# Altium footprint library FT-M6678DSK_28nm_0920.PcbLib: 78 footprints (part 2 of 6)
Each footprint in its own frame and in the unit in brackets; x right, y up, seen from the top. Pads: shape width x height; smd on the part's side, far side on the other; paste and mask are expansions set on the pad; w line width, h text height; cw(c..) or ccw(c..) is an arc to the next point about the centre after c.
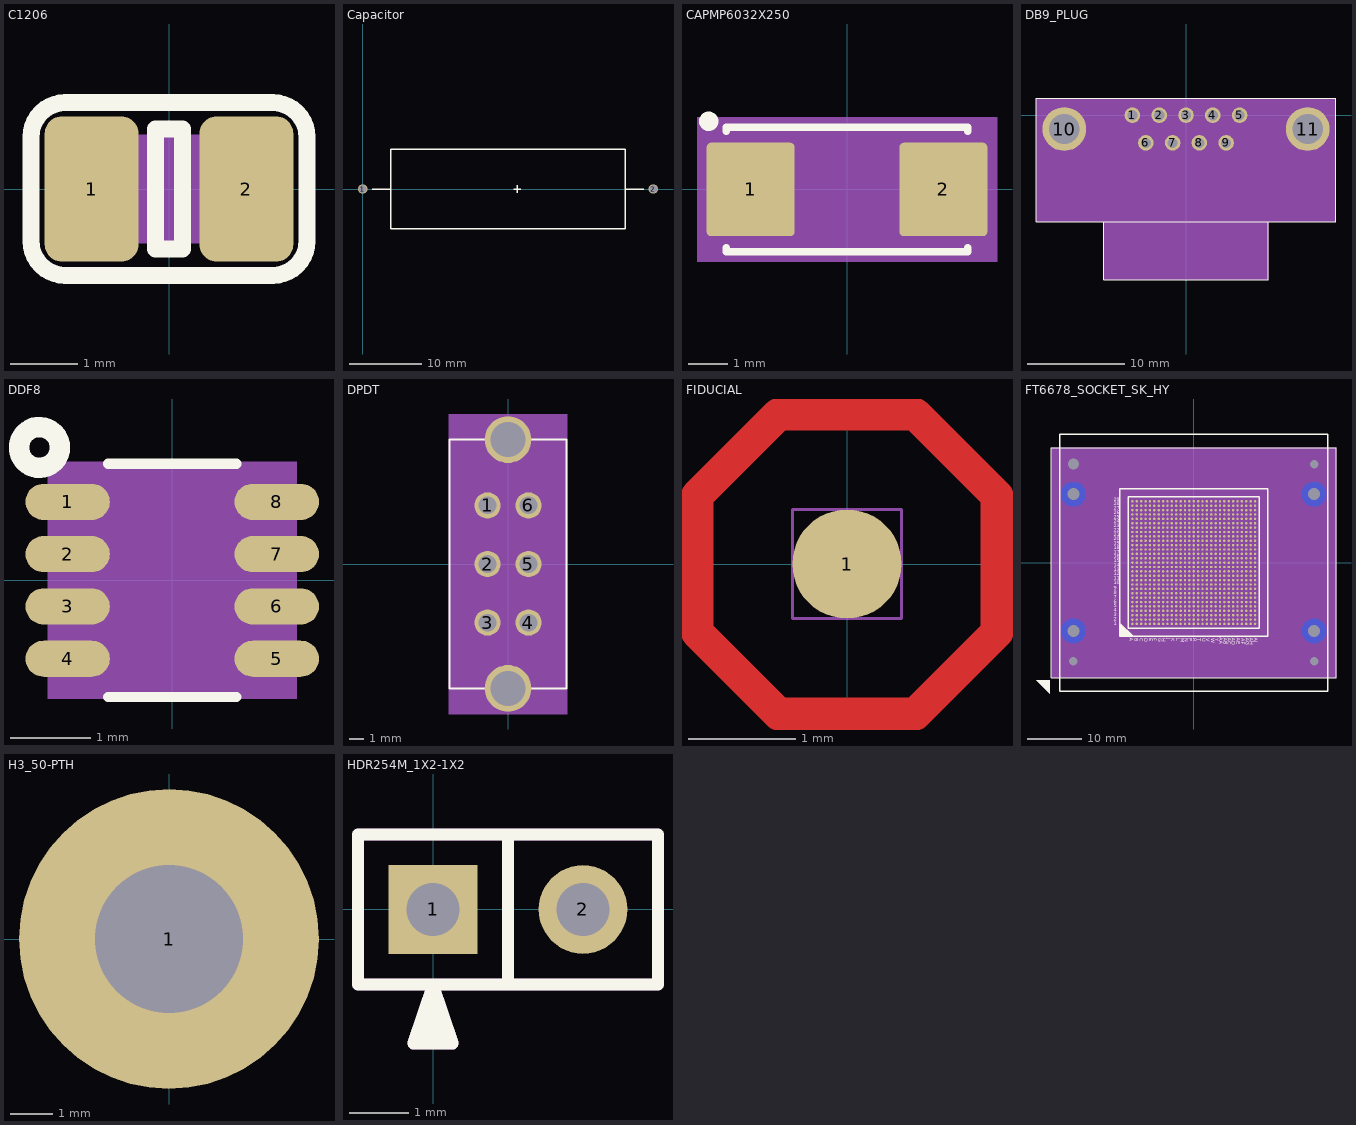
[diagram p1: the footprints below, top view; thin cyan lines are the x and y axes]

## C1206 [mil] "C1206"
pads (2):
  rrect36% 55x85 smd: 1(-45.28,0) 2(45.28,0)
Top Overlay:
  lines w10: -80.78,-30.5 ccw(c-60.78,-30.5) -60.78,-50.5 60.78,-50.5 ccw(c60.78,-30.5) 80.78,-30.5 80.78,30.5 ccw(c60.78,30.5) 60.78,50.5 -60.78,50.5 ccw(c-60.78,30.5) -80.78,30.5 -80.78,-30.5 ; -7.87,-35 -7.87,35 7.87,35 7.87,-35 -7.87,-35
Mechanical 11:
  text "1" at -45.28,-4.72 h11.81
  text "2" at 45.28,-4.72 h11.81
Mechanical 12:
  lines w1: -62.99,-31.5 -62.99,31.5 62.99,31.5 62.99,-31.5 -62.99,-31.5
Mechanical 15:
  region: -62.99,-31.5 62.98,-31.5 62.98,31.5 -62.99,31.5
3D body: height 150, standoff 0, extent -62.99,-31.5 62.98,31.5

## Capacitor [mm]
pads (2):
  round 1.3 hole 1.1: 1(0,0) 2(40,0)
Top Overlay:
  lines w0.2: 1.3,0 3.825,0 ; 20.762,0 21.778,0 ; 21.27,-0.508 21.27,0.508 ; 36.175,0 38.7,0 ; 3.825,0 3.825,5.5 36.175,5.5 36.175,-5.5 3.825,-5.5 3.825,0

## CAPMP6032X250 [mil] "CAPMP6032X250"
pads (2):
  rrect9% 88.58x94.5 smd: 1(-97.44,0) 2(97.44,0)
Top Overlay:
  circle w9.84: c-139.77,68.9 r4.93
  lines w7.87: -122.05,-59.06 -122.05,-62.99 122.04,-62.99 122.04,-59.06 ; -122.05,59.05 -122.05,62.99 122.04,62.99 122.04,59.05
Mechanical 11:
  text "1" at -97.45,-3.16 h11.81
  text "2" at 97.44,-3.16 h11.81
Mechanical 15:
  region: -151.58,-72.84 151.57,-72.84 151.57,72.83 -151.58,72.83
Mechanical 16:
  lines w7.87: -118.11,-62.99 -118.11,62.99 ; -114.18,-62.99 -114.18,62.99 ; -110.24,-62.99 -110.24,62.99 ; -106.3,-62.99 -106.3,62.99 ; -102.37,-62.99 -102.37,62.99 ; -122.05,-62.99 122.04,-62.99 122.04,62.99 -122.05,62.99 -122.05,-62.99
3D body: height 150, standoff 0, extent -151.58,-72.84 151.57,72.83

## DB9_PLUG [mm] "DB9_PLUG"
pads (11):
  round 1.6 hole 1.04: 1(-5.5,0) 2(-2.75,0) 3(0,0) 4(2.75,0) 5(5.5,0) 6(-4.125,-2.84) 7(-1.375,-2.84) 8(1.375,-2.84) 9(4.125,-2.84)
  round 4.5 hole 3.1: 10(-12.5,-1.42) 11(12.5,-1.42)
Top Overlay:
  lines w0.127: -8.46,-10.92 -8.46,-16.89 8.46,-16.89 8.46,-10.92 ; -15.405,-10.92 15.405,-10.92 15.405,1.73 -15.405,1.73 -15.405,-10.92
Mechanical 11:
  text "1" at -5.5,-0.12 h0.3
  text "10" at -12.5,-1.66 h0.3
  text "11" at 12.5,-1.66 h0.3
  text "4" at 2.75,-0.12 h0.3
  text "6" at -4.125,-2.96 h0.3
  text "7" at -1.375,-2.96 h0.3
  text "8" at 1.375,-2.96 h0.3
  text "9" at 4.125,-2.96 h0.3
  text "2" at -2.75,-0.12 h0.3
  text "3" at 0,-0.12 h0.3
  text "5" at 5.5,-0.12 h0.3
Mechanical 15:
  region: -15.405,1.73 -15.405,-10.92 -8.46,-10.92 -8.46,-16.89 8.46,-16.89 8.46,-10.92 15.405,-10.92 15.405,1.73
3D body: height 3.81, standoff 0, extent -15.405,-16.89 15.405,1.73

## DDF8 [mm] "DDF8"
pads (8):
  oval 1.05x0.45 smd: 1(-1.3,0.975) 2(-1.3,0.325) 3(-1.3,-0.325) 4(-1.3,-0.975) 5(1.3,-0.975) 6(1.3,-0.325) 7(1.3,0.325) 8(1.3,0.975)
Top Overlay:
  circle w0.254: c-1.651,1.651 r0.254
  lines w0.127: -0.8,-1.45 0.8,-1.45 ; -0.8,1.45 0.8,1.45
Mechanical 11:
  text "4" at -1.3,-1.095 h0.3
  text "2" at -1.3,0.205 h0.3
  text "7" at 1.3,0.205 h0.3
  text "6" at 1.3,-0.445 h0.3
  text "8" at 1.3,0.855 h0.3
  text "5" at 1.3,-1.095 h0.3
  text "1" at -1.3,0.855 h0.3
  text "3" at -1.3,-0.445 h0.3
Mechanical 15:
  region: -1.55,-1.475 1.55,-1.475 1.55,1.475 -1.55,1.475
3D body: height 3.81, standoff 0, extent -1.55,-1.475 1.55,1.475

## DPDT [mm] "DPDT"
pads (8):
  round 1.8 hole 1.2: 1(-1.4,4) 2(-1.4,0) 3(-1.4,-4) 4(1.4,-4) 5(1.4,0) 6(1.4,4)
  round 3.2 hole 2.4: " "(0,-8.5) " "(0,8.5)
Top Overlay:
  lines w0.127: -4,-8.5 -4,8.5 4,8.5 4,-8.5 -4,-8.5
Mechanical 11:
  text "3" at -1.4,-4.12 h0.3
  text "4" at 1.4,-4.12 h0.3
  text "5" at 1.4,-0.12 h0.3
  text "2" at -1.4,-0.12 h0.3
  text "1" at -1.4,3.88 h0.3
  text "6" at 1.4,3.88 h0.3
Mechanical 15:
  region: -4.063,-10.25 4.063,-10.25 4.063,10.25 -4.063,10.25
3D body: height 3.81, standoff 0, extent -4.063,-10.25 4.063,10.25

## FIDUCIAL [mil] "FIDUCIAL"
pads (1):
  round 40 smd: 1(0,0)
Top Layer:
  lines w12: -55,-25 -55,25 -25,55 25,55 55,25 55,-25 25,-55 -25,-55 -55,-25
Mechanical 11:
  text "1" at -13.2,0 h33
Mechanical 15:
  lines w1: -20,-20 20,-20 20,20 -20,20 -20,-20

## FT6678_SOCKET_SK_HY [mm] "FT6678_SOCKET_SK_HY"
pads (849):
  round 1 hole 1.55: " "(-22,-18) " "(22,-18) " "(22,18)
  round 1 hole 2.2: " "(-22,-12.5) " "(-22,12.5) " "(22,-12.5) " "(22,12.5)
  round 1 hole 2.05: " "(-22,18)
  round 0.45 smd: A1(-11.2,-11.2) A2(-11.2,-10.4) A3(-11.2,-9.6) A4(-11.2,-8.8) A5(-11.2,-8) A6(-11.2,-7.2) A7(-11.2,-6.4) A8(-11.2,-5.6) A9(-11.2,-4.8) A10(-11.2,-4) A11(-11.2,-3.2) A12(-11.2,-2.4) A13(-11.2,-1.6) A14(-11.2,-0.8) A15(-11.2,0) A16(-11.2,0.8) A17(-11.2,1.6) A18(-11.2,2.4) A19(-11.2,3.2) A20(-11.2,4) A21(-11.2,4.8) A22(-11.2,5.6) A23(-11.2,6.4) A24(-11.2,7.2) A25(-11.2,8) A26(-11.2,8.8) A27(-11.2,9.6) A28(-11.2,10.4) A29(-11.2,11.2) AA1(4.8,-11.2) AA2(4.8,-10.4) AA3(4.8,-9.6) AA4(4.8,-8.8) AA5(4.8,-8) AA6(4.8,-7.2) AA7(4.8,-6.4) AA8(4.8,-5.6) AA9(4.8,-4.8) AA10(4.8,-4) AA11(4.8,-3.2) AA12(4.8,-2.4) AA13(4.8,-1.6) AA14(4.8,-0.8) AA15(4.8,0) AA16(4.8,0.8) AA17(4.8,1.6) AA18(4.8,2.4) AA19(4.8,3.2) AA20(4.8,4) AA21(4.8,4.8) AA22(4.8,5.6) AA23(4.8,6.4) AA24(4.8,7.2) AA25(4.8,8) AA26(4.8,8.8) AA27(4.8,9.6) AA28(4.8,10.4) AA29(4.8,11.2) AB1(5.6,-11.2) AB2(5.6,-10.4) AB3(5.6,-9.6) AB4(5.6,-8.8) AB5(5.6,-8) AB6(5.6,-7.2) AB7(5.6,-6.4) AB8(5.6,-5.6) AB9(5.6,-4.8) AB10(5.6,-4) AB11(5.6,-3.2) AB12(5.6,-2.4) AB13(5.6,-1.6) AB14(5.6,-0.8) AB15(5.6,0) AB16(5.6,0.8) AB17(5.6,1.6) AB18(5.6,2.4) AB19(5.6,3.2) AB20(5.6,4) AB21(5.6,4.8) AB22(5.6,5.6) AB23(5.6,6.4) AB24(5.6,7.2) AB25(5.6,8) AB26(5.6,8.8) AB27(5.6,9.6) AB28(5.6,10.4) AB29(5.6,11.2) AC1(6.4,-11.2) AC2(6.4,-10.4) AC3(6.4,-9.6) AC4(6.4,-8.8) AC5(6.4,-8) AC6(6.4,-7.2) AC7(6.4,-6.4) AC8(6.4,-5.6) AC9(6.4,-4.8) AC10(6.4,-4) AC11(6.4,-3.2) AC12(6.4,-2.4) AC13(6.4,-1.6) AC14(6.4,-0.8) AC15(6.4,0) AC16(6.4,0.8) AC17(6.4,1.6) AC18(6.4,2.4) AC19(6.4,3.2) AC20(6.4,4) AC21(6.4,4.8) AC22(6.4,5.6) AC23(6.4,6.4) AC24(6.4,7.2) AC25(6.4,8) AC26(6.4,8.8) AC27(6.4,9.6) AC28(6.4,10.4) AC29(6.4,11.2) AD1(7.2,-11.2) AD2(7.2,-10.4) AD3(7.2,-9.6) AD4(7.2,-8.8) AD5(7.2,-8) AD6(7.2,-7.2) AD7(7.2,-6.4) AD8(7.2,-5.6) AD9(7.2,-4.8) AD10(7.2,-4) AD11(7.2,-3.2) AD12(7.2,-2.4) AD13(7.2,-1.6) AD14(7.2,-0.8) AD15(7.2,0) AD16(7.2,0.8) AD17(7.2,1.6) AD18(7.2,2.4) AD19(7.2,3.2) AD20(7.2,4) AD21(7.2,4.8) AD22(7.2,5.6) AD23(7.2,6.4) AD24(7.2,7.2) AD25(7.2,8) AD26(7.2,8.8) AD27(7.2,9.6) AD28(7.2,10.4) AD29(7.2,11.2) AE1(8,-11.2) AE2(8,-10.4) AE3(8,-9.6) AE4(8,-8.8) AE5(8,-8) AE6(8,-7.2) AE7(8,-6.4) AE8(8,-5.6) AE9(8,-4.8) AE10(8,-4) AE11(8,-3.2) AE12(8,-2.4) AE13(8,-1.6) AE14(8,-0.8) AE15(8,0) AE16(8,0.8) AE17(8,1.6) AE18(8,2.4) AE19(8,3.2) AE20(8,4) AE21(8,4.8) AE22(8,5.6) AE23(8,6.4) AE24(8,7.2) AE25(8,8) AE26(8,8.8) AE27(8,9.6) AE28(8,10.4) AE29(8,11.2) AF1(8.8,-11.2) AF2(8.8,-10.4) AF3(8.8,-9.6) AF4(8.8,-8.8) AF5(8.8,-8) AF6(8.8,-7.2) AF7(8.8,-6.4) AF8(8.8,-5.6) AF9(8.8,-4.8) AF10(8.8,-4) AF11(8.8,-3.2) AF12(8.8,-2.4) AF13(8.8,-1.6) AF14(8.8,-0.8) AF15(8.8,0) AF16(8.8,0.8) AF17(8.8,1.6) AF18(8.8,2.4) AF19(8.8,3.2) AF20(8.8,4) AF21(8.8,4.8) AF22(8.8,5.6) AF23(8.8,6.4) AF24(8.8,7.2) AF25(8.8,8) AF26(8.8,8.8) AF27(8.8,9.6) AF28(8.8,10.4) AF29(8.8,11.2) AG1(9.6,-11.2) AG2(9.6,-10.4) AG3(9.6,-9.6) AG4(9.6,-8.8) AG5(9.6,-8) AG6(9.6,-7.2) AG7(9.6,-6.4) AG8(9.6,-5.6) AG9(9.6,-4.8) AG10(9.6,-4) AG11(9.6,-3.2) AG12(9.6,-2.4) AG13(9.6,-1.6) AG14(9.6,-0.8) AG15(9.6,0) AG16(9.6,0.8) AG17(9.6,1.6) AG18(9.6,2.4) AG19(9.6,3.2) AG20(9.6,4) AG21(9.6,4.8) AG22(9.6,5.6) AG23(9.6,6.4) AG24(9.6,7.2) AG25(9.6,8) AG26(9.6,8.8) AG27(9.6,9.6) AG28(9.6,10.4) AG29(9.6,11.2) AH1(10.4,-11.2) AH2(10.4,-10.4) AH3(10.4,-9.6) AH4(10.4,-8.8) AH5(10.4,-8) AH6(10.4,-7.2) AH7(10.4,-6.4) AH8(10.4,-5.6) AH9(10.4,-4.8) AH10(10.4,-4) AH11(10.4,-3.2) AH12(10.4,-2.4) AH13(10.4,-1.6) AH14(10.4,-0.8) AH15(10.4,0) AH16(10.4,0.8) AH17(10.4,1.6) AH18(10.4,2.4) AH19(10.4,3.2) AH20(10.4,4) AH21(10.4,4.8) AH22(10.4,5.6) AH23(10.4,6.4) AH24(10.4,7.2) AH25(10.4,8) AH26(10.4,8.8) AH27(10.4,9.6) AH28(10.4,10.4) AH29(10.4,11.2) AJ1(11.2,-11.2) AJ2(11.2,-10.4) AJ3(11.2,-9.6) AJ4(11.2,-8.8) AJ5(11.2,-8) AJ6(11.2,-7.2) AJ7(11.2,-6.4) AJ8(11.2,-5.6) AJ9(11.2,-4.8) AJ10(11.2,-4) AJ11(11.2,-3.2) AJ12(11.2,-2.4) AJ13(11.2,-1.6) AJ14(11.2,-0.8) AJ15(11.2,0) AJ16(11.2,0.8) AJ17(11.2,1.6) AJ18(11.2,2.4) AJ19(11.2,3.2) AJ20(11.2,4) AJ21(11.2,4.8) AJ22(11.2,5.6) AJ23(11.2,6.4) AJ24(11.2,7.2) AJ25(11.2,8) AJ26(11.2,8.8) AJ27(11.2,9.6) AJ28(11.2,10.4) AJ29(11.2,11.2) B1(-10.4,-11.2) B2(-10.4,-10.4) B3(-10.4,-9.6) B4(-10.4,-8.8) B5(-10.4,-8) B6(-10.4,-7.2) B7(-10.4,-6.4) B8(-10.4,-5.6) B9(-10.4,-4.8) B10(-10.4,-4) B11(-10.4,-3.2) B12(-10.4,-2.4) B13(-10.4,-1.6) B14(-10.4,-0.8) B15(-10.4,0) B16(-10.4,0.8) B17(-10.4,1.6) B18(-10.4,2.4) B19(-10.4,3.2) B20(-10.4,4) B21(-10.4,4.8) B22(-10.4,5.6) B23(-10.4,6.4) B24(-10.4,7.2) B25(-10.4,8) B26(-10.4,8.8) B27(-10.4,9.6) B28(-10.4,10.4) B29(-10.4,11.2) C1(-9.6,-11.2) C2(-9.6,-10.4) C3(-9.6,-9.6) C4(-9.6,-8.8) C5(-9.6,-8) C6(-9.6,-7.2) C7(-9.6,-6.4) C8(-9.6,-5.6) C9(-9.6,-4.8) C10(-9.6,-4) C11(-9.6,-3.2) C12(-9.6,-2.4) C13(-9.6,-1.6) C14(-9.6,-0.8) C15(-9.6,0) C16(-9.6,0.8) C17(-9.6,1.6) C18(-9.6,2.4) C19(-9.6,3.2) C20(-9.6,4) C21(-9.6,4.8) C22(-9.6,5.6) C23(-9.6,6.4) C24(-9.6,7.2) C25(-9.6,8) C26(-9.6,8.8) C27(-9.6,9.6) C28(-9.6,10.4) C29(-9.6,11.2) D1(-8.8,-11.2) D2(-8.8,-10.4) D3(-8.8,-9.6) D4(-8.8,-8.8) D5(-8.8,-8) D6(-8.8,-7.2) D7(-8.8,-6.4) D8(-8.8,-5.6) D9(-8.8,-4.8) D10(-8.8,-4) D11(-8.8,-3.2) D12(-8.8,-2.4) D13(-8.8,-1.6) D14(-8.8,-0.8) D15(-8.8,0) D16(-8.8,0.8) D17(-8.8,1.6) D18(-8.8,2.4) D19(-8.8,3.2) D20(-8.8,4) D21(-8.8,4.8) D22(-8.8,5.6) D23(-8.8,6.4) D24(-8.8,7.2) D25(-8.8,8) D26(-8.8,8.8) D27(-8.8,9.6) D28(-8.8,10.4) D29(-8.8,11.2) E1(-8,-11.2) E2(-8,-10.4) E3(-8,-9.6) E4(-8,-8.8) E5(-8,-8) E6(-8,-7.2) E7(-8,-6.4) E8(-8,-5.6) E9(-8,-4.8) E10(-8,-4) E11(-8,-3.2) E12(-8,-2.4) E13(-8,-1.6) E14(-8,-0.8) E15(-8,0) E16(-8,0.8) E17(-8,1.6) E18(-8,2.4) E19(-8,3.2) E20(-8,4) E21(-8,4.8) E22(-8,5.6) E23(-8,6.4) E24(-8,7.2) E25(-8,8) E26(-8,8.8) E27(-8,9.6) E28(-8,10.4) E29(-8,11.2) F1(-7.2,-11.2) F2(-7.2,-10.4) F3(-7.2,-9.6) F4(-7.2,-8.8) F5(-7.2,-8) F6(-7.2,-7.2) F7(-7.2,-6.4) F8(-7.2,-5.6) F9(-7.2,-4.8) F10(-7.2,-4) F11(-7.2,-3.2) F12(-7.2,-2.4) F13(-7.2,-1.6) F14(-7.2,-0.8) F15(-7.2,0) F16(-7.2,0.8) F17(-7.2,1.6) F18(-7.2,2.4) F19(-7.2,3.2) F20(-7.2,4) F21(-7.2,4.8) F22(-7.2,5.6) F23(-7.2,6.4) F24(-7.2,7.2) F25(-7.2,8) F26(-7.2,8.8) F27(-7.2,9.6) F28(-7.2,10.4) F29(-7.2,11.2) G1(-6.4,-11.2) G2(-6.4,-10.4) G3(-6.4,-9.6) G4(-6.4,-8.8) G5(-6.4,-8) G6(-6.4,-7.2) G7(-6.4,-6.4) G8(-6.4,-5.6) G9(-6.4,-4.8) G10(-6.4,-4) G11(-6.4,-3.2) G12(-6.4,-2.4) G13(-6.4,-1.6) G14(-6.4,-0.8) G15(-6.4,0) G16(-6.4,0.8) G17(-6.4,1.6) G18(-6.4,2.4) G19(-6.4,3.2) G20(-6.4,4) G21(-6.4,4.8) G22(-6.4,5.6) G23(-6.4,6.4) G24(-6.4,7.2) G25(-6.4,8) G26(-6.4,8.8) G27(-6.4,9.6) G28(-6.4,10.4) G29(-6.4,11.2) H1(-5.6,-11.2) H2(-5.6,-10.4) H3(-5.6,-9.6) H4(-5.6,-8.8) H5(-5.6,-8) H6(-5.6,-7.2) H7(-5.6,-6.4) H8(-5.6,-5.6) H9(-5.6,-4.8) H10(-5.6,-4) H11(-5.6,-3.2) H12(-5.6,-2.4) H13(-5.6,-1.6) H14(-5.6,-0.8) H15(-5.6,0) H16(-5.6,0.8) H17(-5.6,1.6) H18(-5.6,2.4) H19(-5.6,3.2) H20(-5.6,4) H21(-5.6,4.8) H22(-5.6,5.6) H23(-5.6,6.4) H24(-5.6,7.2) H25(-5.6,8) H26(-5.6,8.8) H27(-5.6,9.6) H28(-5.6,10.4) H29(-5.6,11.2) J1(-4.8,-11.2) J2(-4.8,-10.4) J3(-4.8,-9.6) J4(-4.8,-8.8) J5(-4.8,-8) J6(-4.8,-7.2) J7(-4.8,-6.4) J8(-4.8,-5.6) J9(-4.8,-4.8) J10(-4.8,-4) J11(-4.8,-3.2) J12(-4.8,-2.4) J13(-4.8,-1.6) J14(-4.8,-0.8) J15(-4.8,0) J16(-4.8,0.8) J17(-4.8,1.6) J18(-4.8,2.4) J19(-4.8,3.2) J20(-4.8,4) J21(-4.8,4.8) J22(-4.8,5.6) J23(-4.8,6.4) J24(-4.8,7.2) J25(-4.8,8) J26(-4.8,8.8) J27(-4.8,9.6) J28(-4.8,10.4) J29(-4.8,11.2) K1(-4,-11.2) K2(-4,-10.4) K3(-4,-9.6) K4(-4,-8.8) K5(-4,-8) K6(-4,-7.2) K7(-4,-6.4) K8(-4,-5.6) K9(-4,-4.8) K10(-4,-4) K11(-4,-3.2) K12(-4,-2.4) K13(-4,-1.6) K14(-4,-0.8) K15(-4,0) K16(-4,0.8) K17(-4,1.6) K18(-4,2.4) K19(-4,3.2) K20(-4,4) K21(-4,4.8) K22(-4,5.6) K23(-4,6.4) K24(-4,7.2) K25(-4,8) K26(-4,8.8) K27(-4,9.6) K28(-4,10.4) K29(-4,11.2) L1(-3.2,-11.2) L2(-3.2,-10.4) L3(-3.2,-9.6) L4(-3.2,-8.8) L5(-3.2,-8) L6(-3.2,-7.2) L7(-3.2,-6.4) L8(-3.2,-5.6) L9(-3.2,-4.8) L10(-3.2,-4) L11(-3.2,-3.2) L12(-3.2,-2.4) L13(-3.2,-1.6) L14(-3.2,-0.8) L15(-3.2,0) L16(-3.2,0.8) L17(-3.2,1.6) L18(-3.2,2.4) L19(-3.2,3.2) L20(-3.2,4) L21(-3.2,4.8) L22(-3.2,5.6) L23(-3.2,6.4) L24(-3.2,7.2) L25(-3.2,8) L26(-3.2,8.8) L27(-3.2,9.6) L28(-3.2,10.4) L29(-3.2,11.2) M1(-2.4,-11.2) M2(-2.4,-10.4) M3(-2.4,-9.6) M4(-2.4,-8.8) M5(-2.4,-8) M6(-2.4,-7.2) M7(-2.4,-6.4) M8(-2.4,-5.6) M9(-2.4,-4.8) M10(-2.4,-4) M11(-2.4,-3.2) M12(-2.4,-2.4) M13(-2.4,-1.6) M14(-2.4,-0.8) M15(-2.4,0) M16(-2.4,0.8) M17(-2.4,1.6) M18(-2.4,2.4) M19(-2.4,3.2) M20(-2.4,4) M21(-2.4,4.8) M22(-2.4,5.6) M23(-2.4,6.4) M24(-2.4,7.2) M25(-2.4,8) M26(-2.4,8.8) M27(-2.4,9.6) M28(-2.4,10.4) M29(-2.4,11.2) N1(-1.6,-11.2) N2(-1.6,-10.4) N3(-1.6,-9.6) N4(-1.6,-8.8) N5(-1.6,-8) N6(-1.6,-7.2) N7(-1.6,-6.4) N8(-1.6,-5.6) N9(-1.6,-4.8) N10(-1.6,-4) N11(-1.6,-3.2) N12(-1.6,-2.4) N13(-1.6,-1.6) N14(-1.6,-0.8) N15(-1.6,0) N16(-1.6,0.8) N17(-1.6,1.6) N18(-1.6,2.4) N19(-1.6,3.2) N20(-1.6,4) N21(-1.6,4.8) N22(-1.6,5.6) N23(-1.6,6.4) N24(-1.6,7.2) N25(-1.6,8) N26(-1.6,8.8) N27(-1.6,9.6) N28(-1.6,10.4) N29(-1.6,11.2) P1(-0.8,-11.2) P2(-0.8,-10.4) P3(-0.8,-9.6) P4(-0.8,-8.8) P5(-0.8,-8) P6(-0.8,-7.2) P7(-0.8,-6.4) P8(-0.8,-5.6) P9(-0.8,-4.8) P10(-0.8,-4) P11(-0.8,-3.2) P12(-0.8,-2.4) P13(-0.8,-1.6) P14(-0.8,-0.8) P15(-0.8,0) P16(-0.8,0.8) P17(-0.8,1.6) P18(-0.8,2.4) P19(-0.8,3.2) P20(-0.8,4) P21(-0.8,4.8) P22(-0.8,5.6) P23(-0.8,6.4) P24(-0.8,7.2) P25(-0.8,8) P26(-0.8,8.8) P27(-0.8,9.6) P28(-0.8,10.4) P29(-0.8,11.2) R1(0,-11.2) R2(0,-10.4) R3(0,-9.6) R4(0,-8.8) R5(0,-8) R6(0,-7.2) R7(0,-6.4) R8(0,-5.6) R9(0,-4.8) R10(0,-4) R11(0,-3.2) R12(0,-2.4) R13(0,-1.6) R14(0,-0.8) R15(0,0) R16(0,0.8) R17(0,1.6) R18(0,2.4) R19(0,3.2) R20(0,4) R21(0,4.8) R22(0,5.6) R23(0,6.4) R24(0,7.2) R25(0,8) R26(0,8.8) R27(0,9.6) R28(0,10.4) R29(0,11.2) T1(0.8,-11.2) T2(0.8,-10.4) T3(0.8,-9.6) T4(0.8,-8.8) T5(0.8,-8) T6(0.8,-7.2) T7(0.8,-6.4) T8(0.8,-5.6) T9(0.8,-4.8) T10(0.8,-4) T11(0.8,-3.2) T12(0.8,-2.4) T13(0.8,-1.6) T14(0.8,-0.8) T15(0.8,0) T16(0.8,0.8) T17(0.8,1.6) T18(0.8,2.4) T19(0.8,3.2) T20(0.8,4) T21(0.8,4.8) T22(0.8,5.6) T23(0.8,6.4) T24(0.8,7.2) T25(0.8,8) T26(0.8,8.8) T27(0.8,9.6) T28(0.8,10.4) T29(0.8,11.2) U1(1.6,-11.2) U2(1.6,-10.4) U3(1.6,-9.6) U4(1.6,-8.8) U5(1.6,-8) U6(1.6,-7.2) U7(1.6,-6.4) U8(1.6,-5.6) U9(1.6,-4.8) U10(1.6,-4) U11(1.6,-3.2) U12(1.6,-2.4) U13(1.6,-1.6) U14(1.6,-0.8) U15(1.6,0) U16(1.6,0.8) U17(1.6,1.6) U18(1.6,2.4) U19(1.6,3.2) U20(1.6,4) U21(1.6,4.8) U22(1.6,5.6) U23(1.6,6.4) U24(1.6,7.2) U25(1.6,8) U26(1.6,8.8) U27(1.6,9.6) U28(1.6,10.4) U29(1.6,11.2) V1(2.4,-11.2) V2(2.4,-10.4) V3(2.4,-9.6) V4(2.4,-8.8) V5(2.4,-8) V6(2.4,-7.2) V7(2.4,-6.4) V8(2.4,-5.6) V9(2.4,-4.8) V10(2.4,-4) V11(2.4,-3.2) V12(2.4,-2.4) V13(2.4,-1.6) V14(2.4,-0.8) V15(2.4,0) V16(2.4,0.8) V17(2.4,1.6) V18(2.4,2.4) V19(2.4,3.2) V20(2.4,4) V21(2.4,4.8) V22(2.4,5.6) V23(2.4,6.4) V24(2.4,7.2) V25(2.4,8) V26(2.4,8.8) V27(2.4,9.6) V28(2.4,10.4) V29(2.4,11.2) W1(3.2,-11.2) W2(3.2,-10.4) W3(3.2,-9.6) W4(3.2,-8.8) W5(3.2,-8) W6(3.2,-7.2) W7(3.2,-6.4) W8(3.2,-5.6) W9(3.2,-4.8) W10(3.2,-4) W11(3.2,-3.2) W12(3.2,-2.4) W13(3.2,-1.6) W14(3.2,-0.8) W15(3.2,0) W16(3.2,0.8) W17(3.2,1.6) W18(3.2,2.4) W19(3.2,3.2) W20(3.2,4) W21(3.2,4.8) W22(3.2,5.6) W23(3.2,6.4) W24(3.2,7.2) W25(3.2,8) W26(3.2,8.8) W27(3.2,9.6) W28(3.2,10.4) W29(3.2,11.2) Y1(4,-11.2) Y2(4,-10.4) Y3(4,-9.6) Y4(4,-8.8) Y5(4,-8) Y6(4,-7.2) Y7(4,-6.4) Y8(4,-5.6) Y9(4,-4.8) Y10(4,-4) Y11(4,-3.2) Y12(4,-2.4) Y13(4,-1.6) Y14(4,-0.8) Y15(4,0) Y16(4,0.8) Y17(4,1.6) Y18(4,2.4) Y19(4,3.2) Y20(4,4) Y21(4,4.8) Y22(4,5.6) Y23(4,6.4) Y24(4,7.2) Y25(4,8) Y26(4,8.8) Y27(4,9.6) Y28(4,10.4) Y29(4,11.2)
Bottom Layer:
  region: -22,-14.761 -21.559,-14.717 -21.135,-14.589 -20.744,-14.38 -20.401,-14.099 -20.12,-13.756 -19.911,-13.365 -19.783,-12.941 -19.739,-12.5 -19.783,-12.059 -19.911,-11.635 -20.12,-11.244 -20.401,-10.901 -20.744,-10.62 -21.135,-10.411 -21.559,-10.283 -22,-10.239 -22.441,-10.283 -22.865,-10.411 -23.256,-10.62 -23.599,-10.901 -23.88,-11.244 -24.089,-11.635 -24.217,-12.059 -24.261,-12.5 -24.217,-12.941 -24.089,-13.365 -23.88,-13.756 -23.599,-14.099 -23.256,-14.38 -22.865,-14.589 -22.441,-14.717
  region: 22,-14.761 22.441,-14.717 22.865,-14.589 23.256,-14.38 23.598,-14.099 23.88,-13.756 24.088,-13.365 24.217,-12.941 24.261,-12.5 24.217,-12.059 24.088,-11.635 23.88,-11.244 23.598,-10.902 23.256,-10.621 22.865,-10.412 22.441,-10.283 22,-10.24 21.559,-10.283 21.135,-10.412 20.744,-10.621 20.401,-10.902 20.12,-11.244 19.911,-11.635 19.783,-12.059 19.739,-12.5 19.783,-12.941 19.911,-13.365 20.12,-13.756 20.401,-14.099 20.744,-14.38 21.135,-14.589 21.559,-14.717
  region: 22,10.239 22.441,10.283 22.865,10.411 23.256,10.62 23.599,10.901 23.88,11.244 24.089,11.635 24.217,12.059 24.261,12.5 24.217,12.941 24.089,13.365 23.88,13.756 23.599,14.099 23.256,14.38 22.865,14.589 22.441,14.717 22,14.761 21.559,14.717 21.135,14.589 20.744,14.38 20.401,14.099 20.12,13.756 19.911,13.365 19.783,12.941 19.739,12.5 19.783,12.059 19.911,11.635 20.12,11.244 20.401,10.901 20.744,10.62 21.135,10.411 21.559,10.283
  region: -22,10.239 -21.559,10.282 -21.135,10.411 -20.744,10.62 -20.401,10.901 -20.12,11.244 -19.911,11.635 -19.782,12.059 -19.739,12.5 -19.782,12.941 -19.911,13.365 -20.12,13.756 -20.401,14.099 -20.744,14.38 -21.135,14.589 -21.559,14.718 -22,14.761 -22.441,14.718 -22.865,14.589 -23.256,14.38 -23.599,14.099 -23.88,13.756 -24.089,13.365 -24.218,12.941 -24.261,12.5 -24.218,12.059 -24.089,11.635 -23.88,11.244 -23.599,10.901 -23.256,10.62 -22.865,10.411 -22.441,10.282
Top Overlay:
  pour cut-out: -13.5,-13.5 -11,-13.5 -13.5,-11
  pour cut-out: -28.829,-21.463 -26.289,-24.003 -26.289,-21.463
  lines w0.127: -26,-21 26,-21 26,21 -26,21 -26,-21
  lines w0.254: -24.5,-23.5 24.5,-23.5 24.5,23.5 -24.5,23.5 -24.5,-23.5 ; -13.5,-13.5 -13.5,13.5 13.5,13.5 13.5,-13.5 -13.5,-13.5 ; -12,-12 -12,12 12,12 12,-12 -12,-12
  text "29" at -14.578,11.254 h0.64
  text "28" at -14.578,10.454 h0.64
  text "27" at -14.578,9.654 h0.64
  text "26" at -14.578,8.854 h0.64
  text "25" at -14.578,8.054 h0.64
  text "24" at -14.578,7.254 h0.64
  text "23" at -14.578,6.454 h0.64
  text "22" at -14.578,5.654 h0.64
  text "21" at -14.578,4.854 h0.64
  text "20" at -14.578,4.054 h0.64
  text "19" at -14.578,3.254 h0.64
  text "18" at -14.578,2.454 h0.64
  text "17" at -14.578,1.654 h0.64
  text "16" at -14.578,0.854 h0.64
  text "15" at -14.578,0.054 h0.64
  text "14" at -14.578,-0.746 h0.64
  text "13" at -14.578,-1.546 h0.64
  text "12" at -14.578,-2.346 h0.64
  text "11" at -14.578,-3.146 h0.64
  text "10" at -14.578,-3.946 h0.64
  text "9" at -14.578,-5 h0.64
  text "8" at -14.578,-5.8 h0.64
  text "7" at -14.578,-6.6 h0.64
  text "6" at -14.578,-7.4 h0.64
  text "5" at -14.578,-8.2 h0.64
  text "4" at -14.578,-9 h0.64
  text "3" at -14.578,-9.8 h0.64
  text "2" at -14.578,-10.6 h0.64
  text "AJ" at 11.044,-13.739 h0.64
  text "AH" at 10.273,-13.708 h0.64
  text "AG" at 9.52,-13.739 h0.64
  text "AF" at 8.673,-13.835 h0.64
  text "AE" at 7.869,-13.739 h0.64
  text "AD" at 6.98,-13.739 h0.64
  text "AC" at 6.218,-13.739 h0.64
  text "AB" at 5.473,-13.708 h0.64
  text "AA" at 4.694,-13.612 h0.64
  text "Y" at 3.932,-13.866 h0.64
  text "W" at 3.17,-13.866 h0.64
  text "V" at 2.281,-13.866 h0.64
  text "U" at 1.519,-13.866 h0.64
  text "T" at 0.63,-13.866 h0.64
  text "R" at -0.132,-13.866 h0.64
  text "P" at -0.894,-13.866 h0.64
  text "N" at -1.656,-13.866 h0.64
  text "M" at -2.418,-13.866 h0.64
  text "L" at -3.18,-13.866 h0.64
  text "K" at -4.069,-13.866 h0.64
  text "J" at -4.831,-13.866 h0.64
  text "H" at -5.72,-13.866 h0.64
  text "G" at -6.482,-13.866 h0.64
  text "F" at -7.371,-13.866 h0.64
  text "E" at -8.133,-13.866 h0.64
  text "D" at -9.022,-13.866 h0.64
  text "C" at -9.911,-13.866 h0.64
  text "B" at -10.8,-13.866 h0.64
  text "1" at -14.578,-11.4 h0.64
  text "A" at -11.689,-13.739 h0.64
Mechanical 1:
  lines w0.025: -12,-12 12,-12 12,12 -8.184,12 -8.184,12.423 -8.438,12.677 -10.758,12.677 -11.435,12 -12,12 -12,-12
Mechanical 11:
  text "J23" at -4.8,6.766 h0.3
  text "Y1" at 4,-10.956 h0.3
  text "AA1" at 4.8,-10.834 h0.3
  text "AJ20" at 11.2,4.488 h0.3
  text "AH23" at 10.4,6.888 h0.3
  text "AJ21" at 11.2,5.288 h0.3
  text "AG23" at 9.6,6.888 h0.3
  text "AH27" at 10.4,10.088 h0.3
  text "AH19" at 10.4,3.688 h0.3
  text "AH20" at 10.4,4.488 h0.3
  text "AA3" at 4.8,-9.234 h0.3
  text "G29" at -6.4,11.566 h0.3
  text "AF3" at 8.8,-9.234 h0.3
  text "AF1" at 8.8,-10.834 h0.3
  text "K23" at -4,6.766 h0.3
  text "AA20" at 4.8,4.488 h0.3
  text "M24" at -2.4,7.566 h0.3
  text "G25" at -6.4,8.366 h0.3
  text "AG3" at 9.6,-9.234 h0.3
  text "N24" at -1.6,7.566 h0.3
  text "AC22" at 6.4,6.088 h0.3
  text "Y2" at 4,-10.156 h0.3
  text "AA2" at 4.8,-10.034 h0.3
  text "AA4" at 4.8,-8.434 h0.3
  text "AA21" at 4.8,5.288 h0.3
  text "AE21" at 8,5.288 h0.3
  text "L23" at -3.2,6.766 h0.3
  text "N23" at -1.6,6.766 h0.3
  text "H29" at -5.6,11.566 h0.3
  text "H23" at -5.6,6.766 h0.3
  text "AE4" at 8,-8.434 h0.3
  text "Y4" at 4,-8.556 h0.3
  text "AH28" at 10.4,10.888 h0.3
  text "AD22" at 7.2,6.088 h0.3
  text "AG4" at 9.6,-8.434 h0.3
  text "W1" at 3.2,-10.956 h0.3
  text "W2" at 3.2,-10.156 h0.3
  text "AH4" at 10.4,-8.434 h0.3
  text "AJ22" at 11.2,6.088 h0.3
  text "AF20" at 8.8,4.488 h0.3
  text "AG21" at 9.6,5.288 h0.3
  text "AG20" at 9.6,4.488 h0.3
  text "AH22" at 10.4,6.088 h0.3
  text "AD19" at 7.2,3.688 h0.3
  text "AF19" at 8.8,3.688 h0.3
  text "AH5" at 10.4,-7.634 h0.3
  text "K22" at -4,5.966 h0.3
  text "J22" at -4.8,5.966 h0.3
  text "G28" at -6.4,10.766 h0.3
  text "H28" at -5.6,10.766 h0.3
  text "AC6" at 6.4,-6.834 h0.3
  text "AD7" at 7.2,-6.034 h0.3
  text "AC8" at 6.4,-5.234 h0.3
  text "AB9" at 5.6,-4.434 h0.3
  text "AD9" at 7.2,-4.434 h0.3
  text "AC10" at 6.4,-3.512 h0.3
  text "AB11" at 5.6,-2.712 h0.3
  text "AD11" at 7.2,-2.712 h0.3
  text "AC12" at 6.4,-1.912 h0.3
  text "AB13" at 5.6,-1.112 h0.3
  text "AD13" at 7.2,-1.112 h0.3
  text "AC14" at 6.4,-0.312 h0.3
  text "AB15" at 5.6,0.488 h0.3
  text "AD15" at 7.2,0.488 h0.3
  text "AC16" at 6.4,1.288 h0.3
  text "AB17" at 5.6,2.088 h0.3
  text "AD17" at 7.2,2.088 h0.3
  text "AC18" at 6.4,2.888 h0.3
  text "AE18" at 8,2.888 h0.3
  text "T15" at 0.8,0.366 h0.3
  text "R15" at 0,0.366 h0.3
  text "AE3" at 8,-9.234 h0.3
  text "H27" at -5.6,9.966 h0.3
  text "G27" at -6.4,9.966 h0.3
  text "C12" at -9.6,-2.034 h0.3
  text "E18" at -8,2.766 h0.3
  text "B16" at -10.4,1.166 h0.3
  text "A16" at -11.2,1.166 h0.3
  text "T28" at 0.8,10.766 h0.3
  text "U25" at 1.6,8.366 h0.3
  text "G22" at -6.4,5.966 h0.3
  text "Y29" at 4,11.566 h0.3
  text "Y28" at 4,10.766 h0.3
  text "L28" at -3.2,10.766 h0.3
  text "U23" at 1.6,6.766 h0.3
  text "P25" at -0.8,8.366 h0.3
  text "Y25" at 4,8.366 h0.3
  text "R27" at 0,9.966 h0.3
  text "K29" at -4,11.566 h0.3
  text "R23" at 0,6.766 h0.3
  text "AB25" at 5.6,8.488 h0.3
  text "AA24" at 4.8,7.688 h0.3
  text "Y24" at 4,7.566 h0.3
  text "E13" at -8,-1.234 h0.3
  text "AB23" at 5.6,6.888 h0.3
  text "P26" at -0.8,9.166 h0.3
  text "T27" at 0.8,9.966 h0.3
  text "AB24" at 5.6,7.688 h0.3
  text "R26" at 0,9.166 h0.3
  text "P24" at -0.8,7.566 h0.3
  text "L29" at -3.2,11.566 h0.3
  text "K25" at -4,8.366 h0.3
  text "H26" at -5.6,9.166 h0.3
  text "G26" at -6.4,9.166 h0.3
  text "AC26" at 6.4,9.288 h0.3
  text "AE29" at 8,11.688 h0.3
  text "AG28" at 9.6,10.888 h0.3
  text "AE28" at 8,10.888 h0.3
  text "K24" at -4,7.566 h0.3
  text "AE27" at 8,10.088 h0.3
  text "AG27" at 9.6,10.088 h0.3
  text "AD28" at 7.2,10.888 h0.3
  text "AC1" at 6.4,-10.834 h0.3
  text "L27" at -3.2,9.966 h0.3
  text "AD29" at 7.2,11.688 h0.3
  text "AB3" at 5.6,-9.234 h0.3
  text "AC28" at 6.4,10.888 h0.3
  text "AD26" at 7.2,9.288 h0.3
  text "AB2" at 5.6,-10.034 h0.3
  text "AC29" at 6.4,11.688 h0.3
  text "W5" at 3.2,-7.756 h0.3
  text "AG29" at 9.6,11.688 h0.3
  text "AF28" at 8.8,10.888 h0.3
  text "AF29" at 8.8,11.688 h0.3
  text "AD27" at 7.2,10.088 h0.3
  text "AE12" at 8,-1.912 h0.3
  text "AC27" at 6.4,10.088 h0.3
  text "H7" at -5.6,-6.156 h0.3
  text "K7" at -4,-6.156 h0.3
  text "J8" at -4.8,-5.356 h0.3
  text "L8" at -3.2,-5.356 h0.3
  text "N8" at -1.6,-5.356 h0.3
  text "R8" at 0,-5.356 h0.3
  text "U8" at 1.6,-5.356 h0.3
  text "W8" at 3.2,-5.356 h0.3
  text "AA8" at 4.8,-5.234 h0.3
  text "H9" at -5.6,-4.556 h0.3
  text "K9" at -4,-4.556 h0.3
  text "M9" at -2.4,-4.556 h0.3
  text "P9" at -0.8,-4.556 h0.3
  text "T9" at 0.8,-4.556 h0.3
  text "V9" at 2.4,-4.556 h0.3
  text "Y9" at 4,-4.556 h0.3
  text "J10" at -4.8,-3.634 h0.3
  text "L10" at -3.2,-3.634 h0.3
  text "N10" at -1.6,-3.634 h0.3
  text "R10" at 0,-3.634 h0.3
  text "U10" at 1.6,-3.634 h0.3
  text "W10" at 3.2,-3.634 h0.3
  text "AA10" at 4.8,-3.512 h0.3
  text "H11" at -5.6,-2.834 h0.3
  text "K11" at -4,-2.834 h0.3
  text "M11" at -2.4,-2.834 h0.3
  text "P11" at -0.8,-2.834 h0.3
  text "T11" at 0.8,-2.834 h0.3
  text "V11" at 2.4,-2.834 h0.3
  text "Y11" at 4,-2.834 h0.3
  text "J12" at -4.8,-2.034 h0.3
  text "L12" at -3.2,-2.034 h0.3
  text "N12" at -1.6,-2.034 h0.3
  text "R12" at 0,-2.034 h0.3
  text "U12" at 1.6,-2.034 h0.3
  text "W12" at 3.2,-2.034 h0.3
  text "AA12" at 4.8,-1.912 h0.3
  text "H13" at -5.6,-1.234 h0.3
  text "K13" at -4,-1.234 h0.3
  text "M13" at -2.4,-1.234 h0.3
  text "P13" at -0.8,-1.234 h0.3
  text "T13" at 0.8,-1.234 h0.3
  text "V13" at 2.4,-1.234 h0.3
  text "Y13" at 4,-1.234 h0.3
  text "J14" at -4.8,-0.434 h0.3
  text "L14" at -3.2,-0.434 h0.3
  text "N14" at -1.6,-0.434 h0.3
  text "R14" at 0,-0.434 h0.3
  text "U14" at 1.6,-0.434 h0.3
  text "W14" at 3.2,-0.434 h0.3
  text "AA14" at 4.8,-0.312 h0.3
  text "H15" at -5.6,0.366 h0.3
  text "K15" at -4,0.366 h0.3
  text "M15" at -2.4,0.366 h0.3
  text "P15" at -0.8,0.366 h0.3
  text "V15" at 2.4,0.366 h0.3
  text "Y15" at 4,0.366 h0.3
  text "J16" at -4.8,1.166 h0.3
  text "L16" at -3.2,1.166 h0.3
  text "N16" at -1.6,1.166 h0.3
  text "R16" at 0,1.166 h0.3
  text "U16" at 1.6,1.166 h0.3
  text "W16" at 3.2,1.166 h0.3
  text "AA16" at 4.8,1.288 h0.3
  text "H17" at -5.6,1.966 h0.3
  text "K17" at -4,1.966 h0.3
  text "M17" at -2.4,1.966 h0.3
  text "P17" at -0.8,1.966 h0.3
  text "T17" at 0.8,1.966 h0.3
  text "V17" at 2.4,1.966 h0.3
  text "Y17" at 4,1.966 h0.3
  text "J18" at -4.8,2.766 h0.3
  text "L18" at -3.2,2.766 h0.3
  text "N18" at -1.6,2.766 h0.3
  text "R18" at 0,2.766 h0.3
  text "U18" at 1.6,2.766 h0.3
  text "W18" at 3.2,2.766 h0.3
  text "AA18" at 4.8,2.888 h0.3
  text "H19" at -5.6,3.566 h0.3
  text "K19" at -4,3.566 h0.3
  text "M19" at -2.4,3.566 h0.3
  text "P19" at -0.8,3.566 h0.3
  text "T19" at 0.8,3.566 h0.3
  text "V19" at 2.4,3.566 h0.3
  text "Y19" at 4,3.566 h0.3
  text "J20" at -4.8,4.366 h0.3
  text "L20" at -3.2,4.366 h0.3
  text "N20" at -1.6,4.366 h0.3
  text "R20" at 0,4.366 h0.3
  text "U20" at 1.6,4.366 h0.3
  text "W20" at 3.2,4.366 h0.3
  text "H21" at -5.6,5.166 h0.3
  text "K21" at -4,5.166 h0.3
  text "M21" at -2.4,5.166 h0.3
  text "P21" at -0.8,5.166 h0.3
  text "T21" at 0.8,5.166 h0.3
  text "V21" at 2.4,5.166 h0.3
  text "Y21" at 4,5.166 h0.3
  text "L22" at -3.2,5.966 h0.3
  text "N22" at -1.6,5.966 h0.3
  text "R22" at 0,5.966 h0.3
  text "U22" at 1.6,5.966 h0.3
  text "W22" at 3.2,5.966 h0.3
  text "AA22" at 4.8,6.088 h0.3
  text "AE5" at 8,-7.634 h0.3
  text "AJ24" at 11.2,7.688 h0.3
  text "AJ23" at 11.2,6.888 h0.3
  text "AF10" at 8.8,-3.512 h0.3
  text "AH16" at 10.4,1.288 h0.3
  text "AF11" at 8.8,-2.712 h0.3
  text "Y3" at 4,-9.356 h0.3
  text "AG12" at 9.6,-1.912 h0.3
  text "W3" at 3.2,-9.356 h0.3
  text "AJ14" at 11.2,-0.312 h0.3
  text "AJ12" at 11.2,-1.912 h0.3
  text "AJ3" at 11.2,-9.234 h0.3
  text "AJ4" at 11.2,-8.434 h0.3
  text "J29" at -4.8,11.566 h0.3
  text "AH17" at 10.4,2.088 h0.3
  text "AJ5" at 11.2,-7.634 h0.3
  text "H25" at -5.6,8.366 h0.3
  text "AJ6" at 11.2,-6.834 h0.3
  text "AJ15" at 11.2,0.488 h0.3
  text "AH7" at 10.4,-6.034 h0.3
  text "AH2" at 10.4,-10.034 h0.3
  text "AH8" at 10.4,-5.234 h0.3
  text "AG11" at 9.6,-2.712 h0.3
  text "AH3" at 10.4,-9.234 h0.3
  text "AJ8" at 11.2,-5.234 h0.3
  text "AG5" at 9.6,-7.634 h0.3
  text "AJ9" at 11.2,-4.434 h0.3
  text "AJ11" at 11.2,-2.712 h0.3
  text "AG6" at 9.6,-6.834 h0.3
  text "AF7" at 8.8,-6.034 h0.3
  text "AF8" at 8.8,-5.234 h0.3
  text "AG8" at 9.6,-5.234 h0.3
  text "A13" at -11.2,-1.234 h0.3
  text "AG9" at 9.6,-4.434 h0.3
  text "A10" at -11.2,-3.634 h0.3
  text "E19" at -8,3.566 h0.3
  text "E8" at -8,-5.356 h0.3
  text "AD3" at 7.2,-9.234 h0.3
  text "D25" at -8.8,8.366 h0.3
  text "A8" at -11.2,-5.356 h0.3
  text "AC4" at 6.4,-8.434 h0.3
  text "A7" at -11.2,-6.156 h0.3
  text "M25" at -2.4,8.366 h0.3
  text "D26" at -8.8,9.166 h0.3
  text "AJ25" at 11.2,8.488 h0.3
  text "E16" at -8,1.166 h0.3
  text "V5" at 2.4,-7.756 h0.3
  text "AH26" at 10.4,9.288 h0.3
  text "N26" at -1.6,9.166 h0.3
  text "C20" at -9.6,4.366 h0.3
  text "AE10" at 8,-3.512 h0.3
  text "AG26" at 9.6,9.288 h0.3
  text "B5" at -10.4,-7.756 h0.3
  text "AE14" at 8,-0.312 h0.3
  text "N25" at -1.6,8.366 h0.3
  text "C26" at -9.6,9.166 h0.3
  text "AE16" at 8,1.288 h0.3
  text "AH25" at 10.4,8.488 h0.3
  text "AC20" at 6.4,4.488 h0.3
  text "D16" at -8.8,1.166 h0.3
  text "M29" at -2.4,11.566 h0.3
  text "D19" at -8.8,3.566 h0.3
  text "D7" at -8.8,-6.156 h0.3
  text "N6" at -1.6,-6.956 h0.3
  text "R6" at 0,-6.956 h0.3
  text "U6" at 1.6,-6.956 h0.3
  text "M7" at -2.4,-6.156 h0.3
  text "P7" at -0.8,-6.156 h0.3
  text "T7" at 0.8,-6.156 h0.3
  text "V7" at 2.4,-6.156 h0.3
  text "B26" at -10.4,9.166 h0.3
  text "B20" at -10.4,4.366 h0.3
  text "E7" at -8,-6.156 h0.3
  text "W4" at 3.2,-8.556 h0.3
  text "E17" at -8,1.966 h0.3
  text "AF14" at 8.8,-0.312 h0.3
  text "A26" at -11.2,9.166 h0.3
  text "AF13" at 8.8,-1.112 h0.3
  text "C7" at -9.6,-6.156 h0.3
  text "AH13" at 10.4,-1.112 h0.3
  text "C19" at -9.6,3.566 h0.3
  text "AF25" at 8.8,8.488 h0.3
  text "B2" at -10.4,-10.156 h0.3
  text "F23" at -7.2,6.766 h0.3
  text "B7" at -10.4,-6.156 h0.3
  text "P27" at -0.8,9.966 h0.3
  text "F22" at -7.2,5.966 h0.3
  text "J26" at -4.8,9.166 h0.3
  text "D12" at -8.8,-2.034 h0.3
  text "P29" at -0.8,11.566 h0.3
  text "C1" at -9.6,-10.956 h0.3
  text "AC23" at 6.4,6.888 h0.3
  text "M23" at -2.4,6.766 h0.3
  text "C28" at -9.6,10.766 h0.3
  text "AD24" at 7.2,7.688 h0.3
  text "E6" at -8,-6.956 h0.3
  text "AD23" at 7.2,6.888 h0.3
  text "J25" at -4.8,8.366 h0.3
  text "E12" at -8,-2.034 h0.3
  text "C2" at -9.6,-10.156 h0.3
  text "C22" at -9.6,5.966 h0.3
  text "R29" at 0,11.566 h0.3
  text "D27" at -8.8,9.966 h0.3
  text "AF21" at 8.8,5.288 h0.3
  text "C10" at -9.6,-3.634 h0.3
  text "AJ26" at 11.2,9.288 h0.3
  text "J27" at -4.8,9.966 h0.3
  text "E10" at -8,-3.634 h0.3
  text "AG25" at 9.6,8.488 h0.3
  text "N29" at -1.6,11.566 h0.3
  text "F2" at -7.2,-10.156 h0.3
  text "L24" at -3.2,7.566 h0.3
  text "F13" at -7.2,-1.234 h0.3
  text "B28" at -10.4,10.766 h0.3
  text "M5" at -2.4,-7.756 h0.3
  text "A15" at -11.2,0.366 h0.3
  text "N5" at -1.6,-7.756 h0.3
  text "P28" at -0.8,10.766 h0.3
  text "W6" at 3.2,-6.956 h0.3
  text "L26" at -3.2,9.166 h0.3
  text "A12" at -11.2,-2.034 h0.3
  text "T4" at 0.8,-8.556 h0.3
  text "L25" at -3.2,8.366 h0.3
  text "D11" at -8.8,-2.834 h0.3
  text "U4" at 1.6,-8.556 h0.3
  text "AG24" at 9.6,7.688 h0.3
  text "D10" at -8.8,-3.634 h0.3
  text "P2" at -0.8,-10.156 h0.3
  text "AF24" at 8.8,7.688 h0.3
  text "E26" at -8,9.166 h0.3
  text "N2" at -1.6,-10.156 h0.3
  text "AE22" at 8,6.088 h0.3
  text "F3" at -7.2,-9.356 h0.3
  text "T1" at 0.8,-10.956 h0.3
  text "AD21" at 7.2,5.288 h0.3
  text "J24" at -4.8,7.566 h0.3
  text "C15" at -9.6,0.366 h0.3
  text "R1" at 0,-10.956 h0.3
  text "AD25" at 7.2,8.488 h0.3
  text "M26" at -2.4,9.166 h0.3
  text "C11" at -9.6,-2.834 h0.3
  text "AE24" at 8,7.688 h0.3
  text "B10" at -10.4,-3.634 h0.3
  text "AC21" at 6.4,5.288 h0.3
  text "E14" at -8,-0.434 h0.3
  text "AH24" at 10.4,7.688 h0.3
  text "F25" at -7.2,8.366 h0.3
  text "AE23" at 8,6.888 h0.3
  text "E1" at -8,-10.956 h0.3
  text "AF23" at 8.8,6.888 h0.3
  text "D9" at -8.8,-4.556 h0.3
  text "AE25" at 8,8.488 h0.3
  text "F1" at -7.2,-10.956 h0.3
  text "AG2" at 9.6,-10.034 h0.3
  text "AC24" at 6.4,7.688 h0.3
  text "A1" at -11.2,-10.956 h0.3
  text "G1" at -6.4,-10.956 h0.3
  text "H1" at -5.6,-10.956 h0.3
  text "J1" at -4.8,-10.956 h0.3
  text "K1" at -4,-10.956 h0.3
  text "L1" at -3.2,-10.956 h0.3
  text "P1" at -0.8,-10.956 h0.3
  text "U1" at 1.6,-10.956 h0.3
  text "V1" at 2.4,-10.956 h0.3
  text "AJ1" at 11.2,-10.834 h0.3
  text "H2" at -5.6,-10.156 h0.3
  text "J2" at -4.8,-10.156 h0.3
  text "K2" at -4,-10.156 h0.3
  text "L2" at -3.2,-10.156 h0.3
  text "M2" at -2.4,-10.156 h0.3
  text "R2" at 0,-10.156 h0.3
  text "V2" at 2.4,-10.156 h0.3
  text "AC2" at 6.4,-10.034 h0.3
  text "G3" at -6.4,-9.356 h0.3
  text "H3" at -5.6,-9.356 h0.3
  text "J3" at -4.8,-9.356 h0.3
  text "K3" at -4,-9.356 h0.3
  text "L3" at -3.2,-9.356 h0.3
  text "M3" at -2.4,-9.356 h0.3
  text "N3" at -1.6,-9.356 h0.3
  text "P3" at -0.8,-9.356 h0.3
  text "R3" at 0,-9.356 h0.3
  text "T3" at 0.8,-9.356 h0.3
  text "U3" at 1.6,-9.356 h0.3
  text "V3" at 2.4,-9.356 h0.3
  text "H4" at -5.6,-8.556 h0.3
  text "J4" at -4.8,-8.556 h0.3
  text "K4" at -4,-8.556 h0.3
  text "L4" at -3.2,-8.556 h0.3
  text "M4" at -2.4,-8.556 h0.3
  text "R4" at 0,-8.556 h0.3
  text "V4" at 2.4,-8.556 h0.3
  text "AB4" at 5.6,-8.434 h0.3
  text "AF4" at 8.8,-8.434 h0.3
  text "E5" at -8,-7.756 h0.3
  text "G5" at -6.4,-7.756 h0.3
  text "H5" at -5.6,-7.756 h0.3
  text "J5" at -4.8,-7.756 h0.3
  text "K5" at -4,-7.756 h0.3
  text "L5" at -3.2,-7.756 h0.3
  text "P5" at -0.8,-7.756 h0.3
  text "U5" at 1.6,-7.756 h0.3
  text "AA5" at 4.8,-7.634 h0.3
  text "AC5" at 6.4,-7.634 h0.3
  text "F6" at -7.2,-6.956 h0.3
  text "G6" at -6.4,-6.956 h0.3
  text "H6" at -5.6,-6.956 h0.3
  text "J6" at -4.8,-6.956 h0.3
  text "K6" at -4,-6.956 h0.3
  text "L6" at -3.2,-6.956 h0.3
  text "M6" at -2.4,-6.956 h0.3
  text "P6" at -0.8,-6.956 h0.3
  text "T6" at 0.8,-6.956 h0.3
  text "V6" at 2.4,-6.956 h0.3
  text "Y6" at 4,-6.956 h0.3
  text "AB6" at 5.6,-6.834 h0.3
  text "AD6" at 7.2,-6.834 h0.3
  text "AF6" at 8.8,-6.834 h0.3
  text "AH6" at 10.4,-6.834 h0.3
  text "G7" at -6.4,-6.156 h0.3
  text "J7" at -4.8,-6.156 h0.3
  text "L7" at -3.2,-6.156 h0.3
  text "N7" at -1.6,-6.156 h0.3
  text "R7" at 0,-6.156 h0.3
  text "U7" at 1.6,-6.156 h0.3
  text "W7" at 3.2,-6.156 h0.3
  text "AA7" at 4.8,-6.034 h0.3
  text "AC7" at 6.4,-6.034 h0.3
  text "AE7" at 8,-6.034 h0.3
  text "AG7" at 9.6,-6.034 h0.3
  text "AJ7" at 11.2,-6.034 h0.3
  text "F8" at -7.2,-5.356 h0.3
  text "H8" at -5.6,-5.356 h0.3
  text "K8" at -4,-5.356 h0.3
  text "M8" at -2.4,-5.356 h0.3
  text "P8" at -0.8,-5.356 h0.3
  text "T8" at 0.8,-5.356 h0.3
  text "V8" at 2.4,-5.356 h0.3
  text "Y8" at 4,-5.356 h0.3
  text "AB8" at 5.6,-5.234 h0.3
  text "AD8" at 7.2,-5.234 h0.3
  text "AE8" at 8,-5.234 h0.3
  text "G9" at -6.4,-4.556 h0.3
  text "J9" at -4.8,-4.556 h0.3
  text "L9" at -3.2,-4.556 h0.3
  text "N9" at -1.6,-4.556 h0.3
  text "R9" at 0,-4.556 h0.3
  text "U9" at 1.6,-4.556 h0.3
  text "W9" at 3.2,-4.556 h0.3
  text "AA9" at 4.8,-4.434 h0.3
  text "AE9" at 8,-4.434 h0.3
  text "AF9" at 8.8,-4.434 h0.3
  text "AH9" at 10.4,-4.434 h0.3
  text "F10" at -7.2,-3.634 h0.3
  text "H10" at -5.6,-3.634 h0.3
  text "K10" at -4,-3.634 h0.3
  text "M10" at -2.4,-3.634 h0.3
  text "P10" at -0.8,-3.634 h0.3
  text "T10" at 0.8,-3.634 h0.3
  text "V10" at 2.4,-3.634 h0.3
  text "Y10" at 4,-3.634 h0.3
  text "AB10" at 5.6,-3.512 h0.3
  text "AD10" at 7.2,-3.512 h0.3
  text "AG10" at 9.6,-3.512 h0.3
  text "AJ10" at 11.2,-3.512 h0.3
  text "B11" at -10.4,-2.834 h0.3
  text "G11" at -6.4,-2.834 h0.3
  text "J11" at -4.8,-2.834 h0.3
  text "L11" at -3.2,-2.834 h0.3
  text "N11" at -1.6,-2.834 h0.3
  text "R11" at 0,-2.834 h0.3
  text "U11" at 1.6,-2.834 h0.3
  text "W11" at 3.2,-2.834 h0.3
  text "AA11" at 4.8,-2.712 h0.3
  text "AC11" at 6.4,-2.712 h0.3
  text "AE11" at 8,-2.712 h0.3
  text "F12" at -7.2,-2.034 h0.3
  text "H12" at -5.6,-2.034 h0.3
  text "K12" at -4,-2.034 h0.3
  text "M12" at -2.4,-2.034 h0.3
  text "P12" at -0.8,-2.034 h0.3
  text "T12" at 0.8,-2.034 h0.3
  text "V12" at 2.4,-2.034 h0.3
  text "Y12" at 4,-2.034 h0.3
  text "AB12" at 5.6,-1.912 h0.3
  text "AD12" at 7.2,-1.912 h0.3
  text "AF12" at 8.8,-1.912 h0.3
  text "AH12" at 10.4,-1.912 h0.3
  text "G13" at -6.4,-1.234 h0.3
  text "J13" at -4.8,-1.234 h0.3
  text "L13" at -3.2,-1.234 h0.3
  text "N13" at -1.6,-1.234 h0.3
  text "R13" at 0,-1.234 h0.3
  text "U13" at 1.6,-1.234 h0.3
  text "W13" at 3.2,-1.234 h0.3
  text "AA13" at 4.8,-1.112 h0.3
  text "AC13" at 6.4,-1.112 h0.3
  text "AE13" at 8,-1.112 h0.3
  text "AG13" at 9.6,-1.112 h0.3
  text "AJ13" at 11.2,-1.112 h0.3
  text "H14" at -5.6,-0.434 h0.3
  text "K14" at -4,-0.434 h0.3
  text "M14" at -2.4,-0.434 h0.3
  text "P14" at -0.8,-0.434 h0.3
  text "T14" at 0.8,-0.434 h0.3
  text "V14" at 2.4,-0.434 h0.3
  text "Y14" at 4,-0.434 h0.3
  text "AB14" at 5.6,-0.312 h0.3
  text "AD14" at 7.2,-0.312 h0.3
  text "G15" at -6.4,0.366 h0.3
  text "J15" at -4.8,0.366 h0.3
  text "L15" at -3.2,0.366 h0.3
  text "N15" at -1.6,0.366 h0.3
  text "U15" at 1.6,0.366 h0.3
  text "W15" at 3.2,0.366 h0.3
  text "AA15" at 4.8,0.488 h0.3
  text "AC15" at 6.4,0.488 h0.3
  text "AE15" at 8,0.488 h0.3
  text "AF15" at 8.8,0.488 h0.3
  text "AH15" at 10.4,0.488 h0.3
  text "F16" at -7.2,1.166 h0.3
  text "H16" at -5.6,1.166 h0.3
  text "K16" at -4,1.166 h0.3
  text "M16" at -2.4,1.166 h0.3
  text "P16" at -0.8,1.166 h0.3
  text "T16" at 0.8,1.166 h0.3
  text "V16" at 2.4,1.166 h0.3
  text "Y16" at 4,1.166 h0.3
  text "AB16" at 5.6,1.288 h0.3
  text "AD16" at 7.2,1.288 h0.3
  text "AG16" at 9.6,1.288 h0.3
  text "AJ16" at 11.2,1.288 h0.3
  text "B17" at -10.4,1.966 h0.3
  text "G17" at -6.4,1.966 h0.3
  text "J17" at -4.8,1.966 h0.3
  text "L17" at -3.2,1.966 h0.3
  text "N17" at -1.6,1.966 h0.3
  text "R17" at 0,1.966 h0.3
  text "U17" at 1.6,1.966 h0.3
  text "W17" at 3.2,1.966 h0.3
  text "AA17" at 4.8,2.088 h0.3
  text "AC17" at 6.4,2.088 h0.3
  text "AE17" at 8,2.088 h0.3
  text "F18" at -7.2,2.766 h0.3
  text "H18" at -5.6,2.766 h0.3
  text "K18" at -4,2.766 h0.3
  text "M18" at -2.4,2.766 h0.3
  text "P18" at -0.8,2.766 h0.3
  text "T18" at 0.8,2.766 h0.3
  text "V18" at 2.4,2.766 h0.3
  text "Y18" at 4,2.766 h0.3
  text "AB18" at 5.6,2.888 h0.3
  text "AD18" at 7.2,2.888 h0.3
  text "AF18" at 8.8,2.888 h0.3
  text "AH18" at 10.4,2.888 h0.3
  text "G19" at -6.4,3.566 h0.3
  text "J19" at -4.8,3.566 h0.3
  text "L19" at -3.2,3.566 h0.3
  text "N19" at -1.6,3.566 h0.3
  text "R19" at 0,3.566 h0.3
  text "U19" at 1.6,3.566 h0.3
  text "W19" at 3.2,3.566 h0.3
  text "AA19" at 4.8,3.688 h0.3
  text "AC19" at 6.4,3.688 h0.3
  text "AE19" at 8,3.688 h0.3
  text "AG19" at 9.6,3.688 h0.3
  text "AJ19" at 11.2,3.688 h0.3
  text "E20" at -8,4.366 h0.3
  text "H20" at -5.6,4.366 h0.3
  text "K20" at -4,4.366 h0.3
  text "M20" at -2.4,4.366 h0.3
  text "P20" at -0.8,4.366 h0.3
  text "T20" at 0.8,4.366 h0.3
  text "V20" at 2.4,4.366 h0.3
  text "Y20" at 4,4.366 h0.3
  text "AB20" at 5.6,4.488 h0.3
  text "G21" at -6.4,5.166 h0.3
  text "J21" at -4.8,5.166 h0.3
  text "L21" at -3.2,5.166 h0.3
  text "N21" at -1.6,5.166 h0.3
  text "R21" at 0,5.166 h0.3
  text "U21" at 1.6,5.166 h0.3
  text "W21" at 3.2,5.166 h0.3
  text "M22" at -2.4,5.966 h0.3
  text "P22" at -0.8,5.966 h0.3
  text "T22" at 0.8,5.966 h0.3
  text "V22" at 2.4,5.966 h0.3
  text "Y22" at 4,5.966 h0.3
  text "AB22" at 5.6,6.088 h0.3
  text "AF22" at 8.8,6.088 h0.3
  text "AA23" at 4.8,6.888 h0.3
  text "G24" at -6.4,7.566 h0.3
  text "B25" at -10.4,8.366 h0.3
  text "F27" at -7.2,9.966 h0.3
  text "M28" at -2.4,10.766 h0.3
  text "AA28" at 4.8,10.888 h0.3
  text "A29" at -11.2,11.566 h0.3
  text "F29" at -7.2,11.566 h0.3
  text "AJ29" at 11.2,11.688 h0.3
  text "C23" at -9.6,6.766 h0.3
  text "D18" at -8.8,2.766 h0.3
  text "D14" at -8.8,-0.434 h0.3
  text "C8" at -9.6,-5.356 h0.3
  text "D3" at -8.8,-9.356 h0.3
  text "T26" at 0.8,9.166 h0.3
  text "AE26" at 8,9.288 h0.3
  text "E9" at -8,-4.556 h0.3
  text "B12" at -10.4,-2.034 h0.3
  text "E29" at -8,11.566 h0.3
  text "D13" at -8.8,-1.234 h0.3
  text "AB1" at 5.6,-10.834 h0.3
  text "B15" at -10.4,0.366 h0.3
  text "AE1" at 8,-10.834 h0.3
  text "C27" at -9.6,9.966 h0.3
  text "AG1" at 9.6,-10.834 h0.3
  text "B19" at -10.4,3.566 h0.3
  text "D15" at -8.8,0.366 h0.3
  text "F24" at -7.2,7.566 h0.3
  text "AF2" at 8.8,-10.034 h0.3
  text "A25" at -11.2,8.366 h0.3
  text "C9" at -9.6,-4.556 h0.3
  text "AD4" at 7.2,-8.434 h0.3
  text "A20" at -11.2,4.366 h0.3
  text "A9" at -11.2,-4.556 h0.3
  text "AE6" at 8,-6.834 h0.3
  text "E24" at -8,7.566 h0.3
  text "D4" at -8.8,-8.556 h0.3
  text "F20" at -7.2,4.366 h0.3
  text "J28" at -4.8,10.766 h0.3
  text "E4" at -8,-8.556 h0.3
  text "AD1" at 7.2,-10.834 h0.3
  text "B9" at -10.4,-4.556 h0.3
  text "AD20" at 7.2,4.488 h0.3
  text "E21" at -8,5.166 h0.3
  text "C4" at -9.6,-8.556 h0.3
  text "B6" at -10.4,-6.956 h0.3
  text "E28" at -8,10.766 h0.3
  text "C3" at -9.6,-9.356 h0.3
  text "AC9" at 6.4,-4.434 h0.3
  text "A6" at -11.2,-6.956 h0.3
  text "B3" at -10.4,-9.356 h0.3
  text "F21" at -7.2,5.166 h0.3
  text "A14" at -11.2,-0.434 h0.3
  text "C17" at -9.6,1.966 h0.3
  text "A3" at -11.2,-9.356 h0.3
  text "D22" at -8.8,5.966 h0.3
  text "F4" at -7.2,-8.556 h0.3
  text "D29" at -8.8,11.566 h0.3
  text "C16" at -9.6,1.166 h0.3
  text "AJ18" at 11.2,2.888 h0.3
  text "D1" at -8.8,-10.956 h0.3
  text "AG15" at 9.6,0.488 h0.3
  text "M27" at -2.4,9.966 h0.3
  text "E11" at -8,-2.834 h0.3
  text "AH14" at 10.4,-0.312 h0.3
  text "C21" at -9.6,5.166 h0.3
  text "AH10" at 10.4,-3.512 h0.3
  text "AE2" at 8,-10.034 h0.3
  text "D2" at -8.8,-10.156 h0.3
  text "AJ17" at 11.2,2.088 h0.3
  text "C18" at -9.6,2.766 h0.3
  text "AG14" at 9.6,-0.312 h0.3
  text "E27" at -8,9.966 h0.3
  text "N27" at -1.6,9.966 h0.3
  text "B14" at -10.4,-0.434 h0.3
  text "AH11" at 10.4,-2.712 h0.3
  text "B22" at -10.4,5.966 h0.3
  text "E2" at -8,-10.156 h0.3
  text "B18" at -10.4,2.766 h0.3
  text "C29" at -9.6,11.566 h0.3
  text "D28" at -8.8,10.766 h0.3
  text "F14" at -7.2,-0.434 h0.3
  text "A18" at -11.2,2.766 h0.3
  text "A27" at -11.2,9.966 h0.3
  text "R25" at 0,8.366 h0.3
  text "N4" at -1.6,-8.556 h0.3
  text "AD5" at 7.2,-7.634 h0.3
  text "K27" at -4,9.966 h0.3
  text "D24" at -8.8,7.566 h0.3
  text "R28" at 0,10.766 h0.3
  text "U2" at 1.6,-10.156 h0.3
  text "H22" at -5.6,5.966 h0.3
  text "AF17" at 8.8,2.088 h0.3
  text "B27" at -10.4,9.966 h0.3
  text "M1" at -2.4,-10.956 h0.3
  text "E23" at -8,6.766 h0.3
  text "R5" at 0,-7.756 h0.3
  text "A24" at -11.2,7.566 h0.3
  text "T29" at 0.8,11.566 h0.3
  text "K28" at -4,10.766 h0.3
  text "D6" at -8.8,-6.956 h0.3
  text "T5" at 0.8,-7.756 h0.3
  text "A23" at -11.2,6.766 h0.3
  text "T2" at 0.8,-10.156 h0.3
  text "B24" at -10.4,7.566 h0.3
  text "N1" at -1.6,-10.956 h0.3
  text "C6" at -9.6,-6.956 h0.3
  text "P4" at -0.8,-8.556 h0.3
  text "B13" at -10.4,-1.234 h0.3
  text "AF27" at 8.8,10.088 h0.3
  text "AJ27" at 11.2,10.088 h0.3
  text "K26" at -4,9.166 h0.3
  text "A21" at -11.2,5.166 h0.3
  text "C5" at -9.6,-7.756 h0.3
  text "B23" at -10.4,6.766 h0.3
  text "A5" at -11.2,-7.756 h0.3
  text "A19" at -11.2,3.566 h0.3
  text "C24" at -9.6,7.566 h0.3
  text "AD2" at 7.2,-10.034 h0.3
  text "B4" at -10.4,-8.556 h0.3
  text "B1" at -10.4,-10.956 h0.3
  text "A2" at -11.2,-10.156 h0.3
  text "A11" at -11.2,-2.834 h0.3
  text "G16" at -6.4,1.166 h0.3
  text "A17" at -11.2,1.966 h0.3
  text "F17" at -7.2,1.966 h0.3
  text "G18" at -6.4,2.766 h0.3
  text "F19" at -7.2,3.566 h0.3
  text "G20" at -6.4,4.366 h0.3
  text "A28" at -11.2,10.766 h0.3
  text "B29" at -10.4,11.566 h0.3
  text "C25" at -9.6,8.366 h0.3
  text "D23" at -8.8,6.766 h0.3
  text "D20" at -8.8,4.366 h0.3
  text "C14" at -9.6,-0.434 h0.3
  text "D5" at -8.8,-7.756 h0.3
  text "D8" at -8.8,-5.356 h0.3
  text "E3" at -8,-9.356 h0.3
  text "F28" at -7.2,10.766 h0.3
  text "G23" at -6.4,6.766 h0.3
  text "F26" at -7.2,9.166 h0.3
  text "G12" at -6.4,-2.034 h0.3
  text "F11" at -7.2,-2.834 h0.3
  text "G10" at -6.4,-3.634 h0.3
  text "F9" at -7.2,-4.556 h0.3
  text "G8" at -6.4,-5.356 h0.3
  text "F7" at -7.2,-6.156 h0.3
  text "F5" at -7.2,-7.756 h0.3
  text "G4" at -6.4,-8.556 h0.3
  text "G14" at -6.4,-0.434 h0.3
  text "G2" at -6.4,-10.156 h0.3
  text "AE20" at 8,4.488 h0.3
  text "E22" at -8,5.966 h0.3
  text "B21" at -10.4,5.166 h0.3
  text "AH21" at 10.4,5.288 h0.3
  text "F15" at -7.2,0.366 h0.3
  text "A4" at -11.2,-8.556 h0.3
  text "D17" at -8.8,1.966 h0.3
  text "C13" at -9.6,-1.234 h0.3
  text "Y5" at 4,-7.756 h0.3
  text "D21" at -8.8,5.166 h0.3
  text "AF16" at 8.8,1.288 h0.3
  text "E15" at -8,0.366 h0.3
  text "AG18" at 9.6,2.888 h0.3
  text "A22" at -11.2,5.966 h0.3
  text "AH1" at 10.4,-10.834 h0.3
  text "AJ2" at 11.2,-10.034 h0.3
  text "AC3" at 6.4,-9.234 h0.3
  text "AB5" at 5.6,-7.634 h0.3
  text "AF5" at 8.8,-7.634 h0.3
  text "AG22" at 9.6,6.088 h0.3
  text "N28" at -1.6,10.766 h0.3
  text "AB28" at 5.6,10.888 h0.3
  text "AJ28" at 11.2,10.888 h0.3
  text "AH29" at 10.4,11.688 h0.3
  text "H24" at -5.6,7.566 h0.3
  text "P23" at -0.8,6.766 h0.3
  text "T23" at 0.8,6.766 h0.3
  text "Y23" at 4,6.766 h0.3
  text "AB21" at 5.6,5.288 h0.3
  text "U26" at 1.6,9.166 h0.3
  text "V23" at 2.4,6.766 h0.3
  text "AB19" at 5.6,3.688 h0.3
  text "AB7" at 5.6,-6.034 h0.3
  text "Y7" at 4,-6.156 h0.3
  text "AA6" at 4.8,-6.834 h0.3
  text "AF26" at 8.8,9.288 h0.3
  text "B8" at -10.4,-5.356 h0.3
  text "E25" at -8,8.366 h0.3
  text "AG17" at 9.6,2.088 h0.3
  text "Y26" at 4,9.166 h0.3
  text "W27" at 3.2,9.966 h0.3
  text "AA27" at 4.8,10.088 h0.3
  text "W29" at 3.2,11.566 h0.3
  text "AB27" at 5.6,10.088 h0.3
  text "W26" at 3.2,9.166 h0.3
  text "W25" at 3.2,8.366 h0.3
  text "AA26" at 4.8,9.288 h0.3
  text "W24" at 3.2,7.566 h0.3
  text "AA25" at 4.8,8.488 h0.3
  text "R24" at 0,7.566 h0.3
  text "W23" at 3.2,6.766 h0.3
  text "U24" at 1.6,7.566 h0.3
  text "V28" at 2.4,10.766 h0.3
  text "Y27" at 4,9.966 h0.3
  text "V29" at 2.4,11.566 h0.3
  text "V27" at 2.4,9.966 h0.3
  text "V26" at 2.4,9.166 h0.3
  text "V25" at 2.4,8.366 h0.3
  text "V24" at 2.4,7.566 h0.3
  text "AB29" at 5.6,11.688 h0.3
  text "W28" at 3.2,10.766 h0.3
  text "AA29" at 4.8,11.688 h0.3
  text "AB26" at 5.6,9.288 h0.3
  text "T24" at 0.8,7.566 h0.3
  text "U29" at 1.6,11.566 h0.3
  text "AC25" at 6.4,8.488 h0.3
  text "T25" at 0.8,8.366 h0.3
  text "U27" at 1.6,9.966 h0.3
  text "U28" at 1.6,10.766 h0.3
Mechanical 15:
  region: -26,-21 26,-21 26,21 -26,21
Mechanical 16:
  text ".Designator" at 0,0.732 h0.91
3D body: height 3.81, standoff 0, extent -26,-21 26,21

## H3_50-PTH [mil] "H3_50-PTH"
pads (1):
  round 280 / inner round 165.35 / far side round 280 hole 137.8: 1(0,0)
Mechanical 11:
  text "1" at -10,0 h25
Mechanical 15:
  lines w1: -88.58,-88.58 88.58,-88.58 88.58,88.58 -88.58,88.58 -88.58,-88.58
Multi-Layer:
  pour cut-out: 138.23,0 136.52,21.62 131.46,42.71 123.16,62.75 111.83,81.25 97.74,97.74 81.25,111.83 62.75,123.16 42.71,131.46 21.62,136.52 0,138.23 -21.62,136.52 -42.71,131.46 -62.75,123.16 -81.25,111.83 -97.74,97.74 -111.83,81.25 -123.16,62.75 -131.46,42.71 -136.52,21.62 -138.23,0 -136.52,-21.62 -131.46,-42.71 -123.16,-62.75 -111.83,-81.25 -97.74,-97.74 -81.25,-111.83 -62.75,-123.16 -42.71,-131.46 -21.62,-136.52 0,-138.23 21.62,-136.52 42.71,-131.46 62.75,-123.16 81.25,-111.83 97.74,-97.74 111.83,-81.25 123.16,-62.75 131.46,-42.71 136.52,-21.62

## HDR254M_1X2-1X2 [mm] "HDR254M_1X2-1X2"
pads (2):
  rect 1.5x1.5 hole 0.9: 1(0,0)
  round 1.5 hole 0.9: 2(2.54,0)
Top Overlay:
  lines w0.2: -0.133,-2.27 0,-1.27 ; 0.067,-2.27 0,-1.27 ; 0.267,-2.27 0,-1.27 ; 1.27,-1.27 1.27,1.27 1.27,0 ; 0,-1.27 -0.333,-2.27 0.333,-2.27 0,-1.27 ; -1.27,-1.27 -1.27,1.27 3.81,1.27 3.81,-1.27 -1.27,-1.27
Mechanical 11:
  text "1" at -0.12,0 h0.3
  text "2" at 2.42,0 h0.3
Mechanical 15:
  lines w0.025: -1.27,-1.27 -1.27,1.27 3.81,1.27 3.81,-1.27 -1.27,-1.27
Mechanical 16:
  lines w0.2: -0.133,-2.27 0,-1.27 ; 0.067,-2.27 0,-1.27 ; 0.267,-2.27 0,-1.27 ; 1.27,-1.27 1.27,1.27 1.27,0 ; 0,-1.27 -0.333,-2.27 0.333,-2.27 0,-1.27 ; -1.27,-1.27 -1.27,1.27 3.81,1.27 3.81,-1.27 -1.27,-1.27